# Altium schematic symbol library kmilo17pet-NSC_VoltageRef.SchLib: 796 symbols (part 10 of 20)
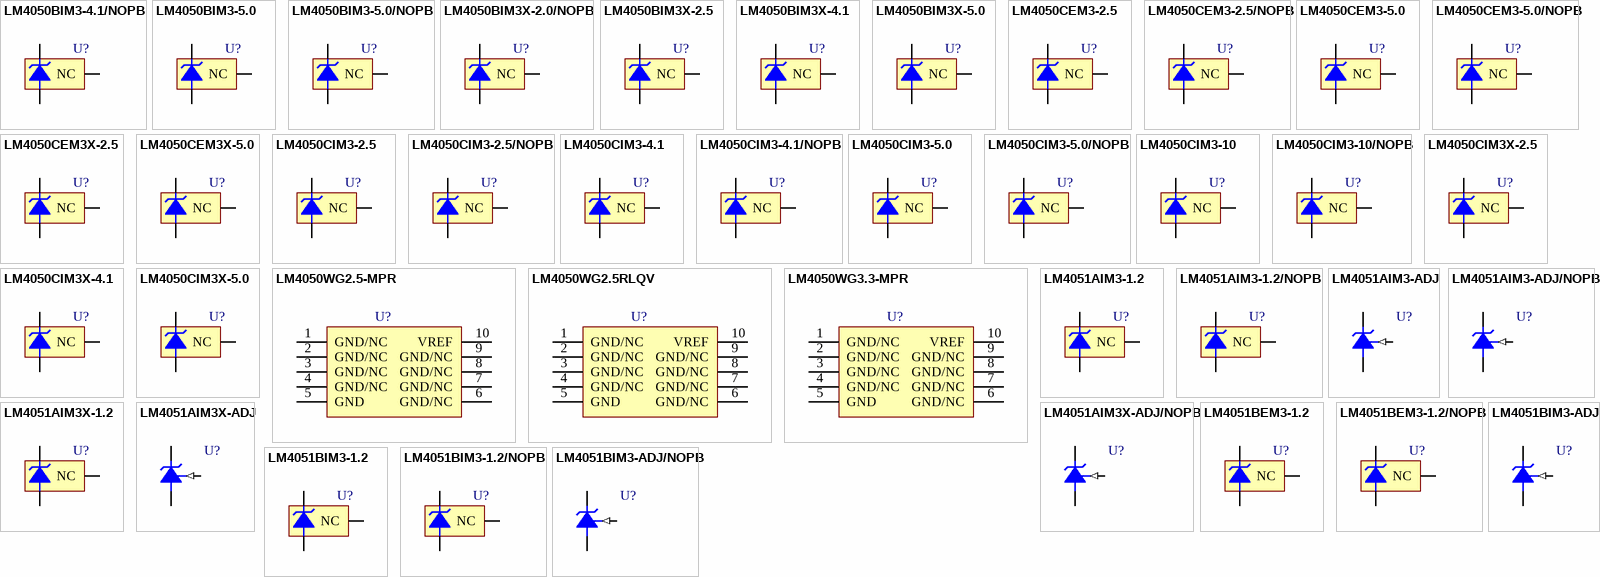
[diagram p29: symbols LM4050BIM3-4.1/NOPB to LM4051BIM3-ADJ/NOPB]

## LM4050CIM3-2.5/NOPB
designator U?
Precision Micropower Shunt Voltage Reference, 3-pin SOT-23, Pb-Free; PartNumber: LM4050CIM3-2.5/NOPB; Manufacturer: National Semiconductor; PackageTopMarking: RCC*XTT; PowerWise: N; CompType: Voltage Reference IC; High-Reliability: Y; DatasheetVersion: Jul-2004; PackageVersion: revB, Mar-2003; PackageReference: MF03A; PackageDescription: Molded SOT-23, .115 x .051 x .037in Body, 3 Lead, .075 in Pitch; RoHS: Y; PinCount: 3; ComponentLink1Description: Manufacturer URL; ComponentLink1URL: http://www.national.com/; ComponentLink2Description: LM4050 Datasheet; ComponentLink2URL: http://www.national.com/ds/LM/LM4050.pdf; ComponentLink3Description: LM4050 Web Page; ComponentLink3URL: http://www.national.com/pf/LM/LM4050.html; ComponentLink4Description: MF03A Package Page; ComponentLink4URL: http://www.national.com/packaging/folders/mf03a.html
footprint MF03A_N (SOT23, 3-Leads, Body 2.9x1.3mm, Pitch 0.95mm, Lead Span 2.4mm, IPC Medium Density)
footprint MF03A_L (SOT23, 3-Leads, Body 2.9x1.3mm, Pitch 0.95mm, Lead Span 2.4mm, IPC High Density)
footprint MF03A_M (SOT23, 3-Leads, Body 2.9x1.3mm, Pitch 0.95mm, Lead Span 2.4mm, IPC Low Density)
pins: 1 +V, 2 -V, 3 NC

## LM4050CIM3-4.1
designator U?
Precision Micropower Shunt Voltage Reference, 3-pin SOT-23; PartNumber: LM4050CIM3-4.1; Manufacturer: National Semiconductor; PackageTopMarking: RDC*XTT; PowerWise: N; CompType: Voltage Reference IC; High-Reliability: Y; DatasheetVersion: Jul-2004; PackageVersion: revB, Mar-2003; PackageReference: MF03A; PackageDescription: Molded SOT-23, .115 x .051 x .037in Body, 3 Lead, .075 in Pitch; RoHS: N; PinCount: 3; ComponentLink1Description: Manufacturer URL; ComponentLink1URL: http://www.national.com/; ComponentLink2Description: LM4050 Datasheet; ComponentLink2URL: http://www.national.com/ds/LM/LM4050.pdf; ComponentLink3Description: LM4050 Web Page; ComponentLink3URL: http://www.national.com/pf/LM/LM4050.html; ComponentLink4Description: MF03A Package Page; ComponentLink4URL: http://www.national.com/packaging/folders/mf03a.html
footprint MF03A_N (SOT23, 3-Leads, Body 2.9x1.3mm, Pitch 0.95mm, Lead Span 2.4mm, IPC Medium Density)
footprint MF03A_L (SOT23, 3-Leads, Body 2.9x1.3mm, Pitch 0.95mm, Lead Span 2.4mm, IPC High Density)
footprint MF03A_M (SOT23, 3-Leads, Body 2.9x1.3mm, Pitch 0.95mm, Lead Span 2.4mm, IPC Low Density)
pins: 1 +V, 2 -V, 3 NC

## LM4050CIM3-4.1/NOPB
designator U?
Precision Micropower Shunt Voltage Reference, 3-pin SOT-23, Pb-Free; PartNumber: LM4050CIM3-4.1/NOPB; Manufacturer: National Semiconductor; PackageTopMarking: RDC*XTT; PowerWise: N; CompType: Voltage Reference IC; High-Reliability: Y; DatasheetVersion: Jul-2004; PackageVersion: revB, Mar-2003; PackageReference: MF03A; PackageDescription: Molded SOT-23, .115 x .051 x .037in Body, 3 Lead, .075 in Pitch; RoHS: Y; PinCount: 3; ComponentLink1Description: Manufacturer URL; ComponentLink1URL: http://www.national.com/; ComponentLink2Description: LM4050 Datasheet; ComponentLink2URL: http://www.national.com/ds/LM/LM4050.pdf; ComponentLink3Description: LM4050 Web Page; ComponentLink3URL: http://www.national.com/pf/LM/LM4050.html; ComponentLink4Description: MF03A Package Page; ComponentLink4URL: http://www.national.com/packaging/folders/mf03a.html
footprint MF03A_N (SOT23, 3-Leads, Body 2.9x1.3mm, Pitch 0.95mm, Lead Span 2.4mm, IPC Medium Density)
footprint MF03A_L (SOT23, 3-Leads, Body 2.9x1.3mm, Pitch 0.95mm, Lead Span 2.4mm, IPC High Density)
footprint MF03A_M (SOT23, 3-Leads, Body 2.9x1.3mm, Pitch 0.95mm, Lead Span 2.4mm, IPC Low Density)
pins: 1 +V, 2 -V, 3 NC

## LM4050CIM3-5.0
designator U?
Precision Micropower Shunt Voltage Reference, 3-pin SOT-23; PartNumber: LM4050CIM3-5.0; Manufacturer: National Semiconductor; PackageTopMarking: REC*XTT; PowerWise: N; CompType: Voltage Reference IC; High-Reliability: Y; DatasheetVersion: Jul-2004; PackageVersion: revB, Mar-2003; PackageReference: MF03A; PackageDescription: Molded SOT-23, .115 x .051 x .037in Body, 3 Lead, .075 in Pitch; RoHS: N; PinCount: 3; ComponentLink1Description: Manufacturer URL; ComponentLink1URL: http://www.national.com/; ComponentLink2Description: LM4050 Datasheet; ComponentLink2URL: http://www.national.com/ds/LM/LM4050.pdf; ComponentLink3Description: LM4050 Web Page; ComponentLink3URL: http://www.national.com/pf/LM/LM4050.html; ComponentLink4Description: MF03A Package Page; ComponentLink4URL: http://www.national.com/packaging/folders/mf03a.html
footprint MF03A_N (SOT23, 3-Leads, Body 2.9x1.3mm, Pitch 0.95mm, Lead Span 2.4mm, IPC Medium Density)
footprint MF03A_L (SOT23, 3-Leads, Body 2.9x1.3mm, Pitch 0.95mm, Lead Span 2.4mm, IPC High Density)
footprint MF03A_M (SOT23, 3-Leads, Body 2.9x1.3mm, Pitch 0.95mm, Lead Span 2.4mm, IPC Low Density)
pins: 1 +V, 2 -V, 3 NC

## LM4050CIM3-5.0/NOPB
designator U?
Precision Micropower Shunt Voltage Reference, 3-pin SOT-23, Pb-Free; PartNumber: LM4050CIM3-5.0/NOPB; Manufacturer: National Semiconductor; PackageTopMarking: REC*XTT; PowerWise: N; CompType: Voltage Reference IC; High-Reliability: Y; DatasheetVersion: Jul-2004; PackageVersion: revB, Mar-2003; PackageReference: MF03A; PackageDescription: Molded SOT-23, .115 x .051 x .037in Body, 3 Lead, .075 in Pitch; RoHS: Y; PinCount: 3; ComponentLink1Description: Manufacturer URL; ComponentLink1URL: http://www.national.com/; ComponentLink2Description: LM4050 Datasheet; ComponentLink2URL: http://www.national.com/ds/LM/LM4050.pdf; ComponentLink3Description: LM4050 Web Page; ComponentLink3URL: http://www.national.com/pf/LM/LM4050.html; ComponentLink4Description: MF03A Package Page; ComponentLink4URL: http://www.national.com/packaging/folders/mf03a.html
footprint MF03A_N (SOT23, 3-Leads, Body 2.9x1.3mm, Pitch 0.95mm, Lead Span 2.4mm, IPC Medium Density)
footprint MF03A_L (SOT23, 3-Leads, Body 2.9x1.3mm, Pitch 0.95mm, Lead Span 2.4mm, IPC High Density)
footprint MF03A_M (SOT23, 3-Leads, Body 2.9x1.3mm, Pitch 0.95mm, Lead Span 2.4mm, IPC Low Density)
pins: 1 +V, 2 -V, 3 NC

## LM4050CIM3-10
designator U?
Precision Micropower Shunt Voltage Reference, 3-pin SOT-23; PartNumber: LM4050CIM3-10; Manufacturer: National Semiconductor; PackageTopMarking: RGC*XTT; PowerWise: N; CompType: Voltage Reference IC; High-Reliability: Y; DatasheetVersion: Jul-2004; PackageVersion: revB, Mar-2003; PackageReference: MF03A; PackageDescription: Molded SOT-23, .115 x .051 x .037in Body, 3 Lead, .075 in Pitch; RoHS: N; PinCount: 3; ComponentLink1Description: Manufacturer URL; ComponentLink1URL: http://www.national.com/; ComponentLink2Description: LM4050 Datasheet; ComponentLink2URL: http://www.national.com/ds/LM/LM4050.pdf; ComponentLink3Description: LM4050 Web Page; ComponentLink3URL: http://www.national.com/pf/LM/LM4050.html; ComponentLink4Description: MF03A Package Page; ComponentLink4URL: http://www.national.com/packaging/folders/mf03a.html
footprint MF03A_N (SOT23, 3-Leads, Body 2.9x1.3mm, Pitch 0.95mm, Lead Span 2.4mm, IPC Medium Density)
footprint MF03A_L (SOT23, 3-Leads, Body 2.9x1.3mm, Pitch 0.95mm, Lead Span 2.4mm, IPC High Density)
footprint MF03A_M (SOT23, 3-Leads, Body 2.9x1.3mm, Pitch 0.95mm, Lead Span 2.4mm, IPC Low Density)
pins: 1 +V, 2 -V, 3 NC

## LM4050CIM3-10/NOPB
designator U?
Precision Micropower Shunt Voltage Reference, 3-pin SOT-23, Pb-Free; PartNumber: LM4050CIM3-10/NOPB; Manufacturer: National Semiconductor; PackageTopMarking: RGC*XTT; PowerWise: N; CompType: Voltage Reference IC; High-Reliability: Y; DatasheetVersion: Jul-2004; PackageVersion: revB, Mar-2003; PackageReference: MF03A; PackageDescription: Molded SOT-23, .115 x .051 x .037in Body, 3 Lead, .075 in Pitch; RoHS: Y; PinCount: 3; ComponentLink1Description: Manufacturer URL; ComponentLink1URL: http://www.national.com/; ComponentLink2Description: LM4050 Datasheet; ComponentLink2URL: http://www.national.com/ds/LM/LM4050.pdf; ComponentLink3Description: LM4050 Web Page; ComponentLink3URL: http://www.national.com/pf/LM/LM4050.html; ComponentLink4Description: MF03A Package Page; ComponentLink4URL: http://www.national.com/packaging/folders/mf03a.html
footprint MF03A_N (SOT23, 3-Leads, Body 2.9x1.3mm, Pitch 0.95mm, Lead Span 2.4mm, IPC Medium Density)
footprint MF03A_L (SOT23, 3-Leads, Body 2.9x1.3mm, Pitch 0.95mm, Lead Span 2.4mm, IPC High Density)
footprint MF03A_M (SOT23, 3-Leads, Body 2.9x1.3mm, Pitch 0.95mm, Lead Span 2.4mm, IPC Low Density)
pins: 1 +V, 2 -V, 3 NC

## LM4050CIM3X-2.5
designator U?
Precision Micropower Shunt Voltage Reference, 3-pin SOT-23; PartNumber: LM4050CIM3X-2.5; Manufacturer: National Semiconductor; PackageTopMarking: RCC*XTT; PowerWise: N; CompType: Voltage Reference IC; High-Reliability: Y; DatasheetVersion: Jul-2004; PackageVersion: revB, Mar-2003; PackageReference: MF03A; PackageDescription: Molded SOT-23, .115 x .051 x .037in Body, 3 Lead, .075 in Pitch; RoHS: N; PinCount: 3; ComponentLink1Description: Manufacturer URL; ComponentLink1URL: http://www.national.com/; ComponentLink2Description: LM4050 Datasheet; ComponentLink2URL: http://www.national.com/ds/LM/LM4050.pdf; ComponentLink3Description: LM4050 Web Page; ComponentLink3URL: http://www.national.com/pf/LM/LM4050.html; ComponentLink4Description: MF03A Package Page; ComponentLink4URL: http://www.national.com/packaging/folders/mf03a.html
footprint MF03A_N (SOT23, 3-Leads, Body 2.9x1.3mm, Pitch 0.95mm, Lead Span 2.4mm, IPC Medium Density)
footprint MF03A_L (SOT23, 3-Leads, Body 2.9x1.3mm, Pitch 0.95mm, Lead Span 2.4mm, IPC High Density)
footprint MF03A_M (SOT23, 3-Leads, Body 2.9x1.3mm, Pitch 0.95mm, Lead Span 2.4mm, IPC Low Density)
pins: 1 +V, 2 -V, 3 NC

## LM4050CIM3X-4.1
designator U?
Precision Micropower Shunt Voltage Reference, 3-pin SOT-23; PartNumber: LM4050CIM3X-4.1; Manufacturer: National Semiconductor; PackageTopMarking: RDC*XTT; PowerWise: N; CompType: Voltage Reference IC; High-Reliability: Y; DatasheetVersion: Jul-2004; PackageVersion: revB, Mar-2003; PackageReference: MF03A; PackageDescription: Molded SOT-23, .115 x .051 x .037in Body, 3 Lead, .075 in Pitch; RoHS: N; PinCount: 3; ComponentLink1Description: Manufacturer URL; ComponentLink1URL: http://www.national.com/; ComponentLink2Description: LM4050 Datasheet; ComponentLink2URL: http://www.national.com/ds/LM/LM4050.pdf; ComponentLink3Description: LM4050 Web Page; ComponentLink3URL: http://www.national.com/pf/LM/LM4050.html; ComponentLink4Description: MF03A Package Page; ComponentLink4URL: http://www.national.com/packaging/folders/mf03a.html
footprint MF03A_N (SOT23, 3-Leads, Body 2.9x1.3mm, Pitch 0.95mm, Lead Span 2.4mm, IPC Medium Density)
footprint MF03A_L (SOT23, 3-Leads, Body 2.9x1.3mm, Pitch 0.95mm, Lead Span 2.4mm, IPC High Density)
footprint MF03A_M (SOT23, 3-Leads, Body 2.9x1.3mm, Pitch 0.95mm, Lead Span 2.4mm, IPC Low Density)
pins: 1 +V, 2 -V, 3 NC

## LM4050CIM3X-5.0
designator U?
Precision Micropower Shunt Voltage Reference, 3-pin SOT-23; PartNumber: LM4050CIM3X-5.0; Manufacturer: National Semiconductor; PackageTopMarking: REC*XTT; PowerWise: N; CompType: Voltage Reference IC; High-Reliability: Y; DatasheetVersion: Jul-2004; PackageVersion: revB, Mar-2003; PackageReference: MF03A; PackageDescription: Molded SOT-23, .115 x .051 x .037in Body, 3 Lead, .075 in Pitch; RoHS: N; PinCount: 3; ComponentLink1Description: Manufacturer URL; ComponentLink1URL: http://www.national.com/; ComponentLink2Description: LM4050 Datasheet; ComponentLink2URL: http://www.national.com/ds/LM/LM4050.pdf; ComponentLink3Description: LM4050 Web Page; ComponentLink3URL: http://www.national.com/pf/LM/LM4050.html; ComponentLink4Description: MF03A Package Page; ComponentLink4URL: http://www.national.com/packaging/folders/mf03a.html
footprint MF03A_N (SOT23, 3-Leads, Body 2.9x1.3mm, Pitch 0.95mm, Lead Span 2.4mm, IPC Medium Density)
footprint MF03A_L (SOT23, 3-Leads, Body 2.9x1.3mm, Pitch 0.95mm, Lead Span 2.4mm, IPC High Density)
footprint MF03A_M (SOT23, 3-Leads, Body 2.9x1.3mm, Pitch 0.95mm, Lead Span 2.4mm, IPC Low Density)
pins: 1 +V, 2 -V, 3 NC

## LM4050WG2.5-MPR
designator U?
Precision Micropower Shunt Voltage Reference, 10 pin CERPACK; PartNumber: LM4050WG2.5-MPR; Manufacturer: National Semiconductor; PackageTopMarking: NSZSSXXYYA*LM4050WG*2.5-MPR*ES; PowerWise: N; CompType: Voltage Reference IC; High-Reliability: Y; DatasheetVersion: Aug-2010; PackageVersion: revF, Oct-2008; PackageReference: WG10A; PackageDescription: Cerpack, .270 x .241 x .070in, 10 Lead, .050in Pitch, Gull Wing; RoHS: N; PinCount: 10; ComponentLink1Description: Manufacturer URL; ComponentLink1URL: http://www.national.com/; ComponentLink2Description: LM4050 Datasheet; ComponentLink2URL: http://www.national.com/ds/LM/LM4050QML.pdf; ComponentLink3Description: LM4050 Web Page; ComponentLink3URL: http://www.national.com/pf/LM/LM4050.html; ComponentLink4Description: WG10A Package Page; ComponentLink4URL: http://www.national.com/packaging/folders/wg10a.html
footprint WG10A_N (CERPACK, 10-Leads, Body 6.9x6.3mm, Pitch 1.27mm, IPC Medium Density)
footprint WG10A_L (CERPACK, 10-Leads, Body 6.9x6.3mm, Pitch 1.27mm, IPC High Density)
footprint WG10A_M (CERPACK, 10-Leads, Body 6.9x6.3mm, Pitch 1.27mm, IPC Low Density)
pins: 1 GND/NC, 2 GND/NC, 3 GND/NC, 4 GND/NC, 5 GND (power), 6 GND/NC, 7 GND/NC, 8 GND/NC, 9 GND/NC, 10 VREF (power)

## LM4050WG2.5RLQV
designator U?
Precision Micropower Shunt Voltage Reference, 10 pin CERPACK; PartNumber: LM4050WG2.5RLQV; Manufacturer: National Semiconductor; PackageTopMarking: NSZSSXXYYA*LM4050WG*2.5RLQV Q*R09235*61VZA; PowerWise: N; CompType: Voltage Reference IC; High-Reliability: Y; DatasheetVersion: Aug-2010; PackageVersion: revF, Oct-2008; PackageReference: WG10A; PackageDescription: Cerpack, .270 x .241 x .070in, 10 Lead, .050in Pitch, Gull Wing; RoHS: N; PinCount: 10; ComponentLink1Description: Manufacturer URL; ComponentLink1URL: http://www.national.com/; ComponentLink2Description: LM4050 Datasheet; ComponentLink2URL: http://www.national.com/ds/LM/LM4050QML.pdf; ComponentLink3Description: LM4050 Web Page; ComponentLink3URL: http://www.national.com/pf/LM/LM4050.html; ComponentLink4Description: WG10A Package Page; ComponentLink4URL: http://www.national.com/packaging/folders/wg10a.html
footprint WG10A_N (CERPACK, 10-Leads, Body 6.9x6.3mm, Pitch 1.27mm, IPC Medium Density)
footprint WG10A_L (CERPACK, 10-Leads, Body 6.9x6.3mm, Pitch 1.27mm, IPC High Density)
footprint WG10A_M (CERPACK, 10-Leads, Body 6.9x6.3mm, Pitch 1.27mm, IPC Low Density)
pins: 1 GND/NC, 2 GND/NC, 3 GND/NC, 4 GND/NC, 5 GND (power), 6 GND/NC, 7 GND/NC, 8 GND/NC, 9 GND/NC, 10 VREF (power)

## LM4050WG3.3-MPR
designator U?
Precision Micropower Shunt Voltage Reference, 10 pin CERPACK; PartNumber: LM4050WG3.3-MPR; Manufacturer: National Semiconductor; PackageTopMarking: NSZSSXXYYA*LM4050WG*3.3-MPR*ES; PowerWise: N; CompType: Voltage Reference IC; High-Reliability: Y; DatasheetVersion: Aug-2010; PackageVersion: revF, Oct-2008; PackageReference: WG10A; PackageDescription: Cerpack, .270 x .241 x .070in, 10 Lead, .050in Pitch, Gull Wing; RoHS: N; PinCount: 10; ComponentLink1Description: Manufacturer URL; ComponentLink1URL: http://www.national.com/; ComponentLink2Description: LM4050 Datasheet; ComponentLink2URL: http://www.national.com/ds/LM/LM4050QML.pdf; ComponentLink3Description: LM4050 Web Page; ComponentLink3URL: http://www.national.com/pf/LM/LM4050.html; ComponentLink4Description: WG10A Package Page; ComponentLink4URL: http://www.national.com/packaging/folders/wg10a.html
footprint WG10A_N (CERPACK, 10-Leads, Body 6.9x6.3mm, Pitch 1.27mm, IPC Medium Density)
footprint WG10A_L (CERPACK, 10-Leads, Body 6.9x6.3mm, Pitch 1.27mm, IPC High Density)
footprint WG10A_M (CERPACK, 10-Leads, Body 6.9x6.3mm, Pitch 1.27mm, IPC Low Density)
pins: 1 GND/NC, 2 GND/NC, 3 GND/NC, 4 GND/NC, 5 GND (power), 6 GND/NC, 7 GND/NC, 8 GND/NC, 9 GND/NC, 10 VREF (power)

## LM4051AIM3-1.2
designator U?
Precision Micropower Shunt Voltage Reference, 3-pin SOT-23; PartNumber: LM4051AIM3-1.2; Manufacturer: National Semiconductor; PackageTopMarking: RHA*XTT; PowerWise: N; CompType: Voltage Reference IC; DatasheetVersion: Mar-2005; PackageVersion: revB, Mar-2003; PackageReference: MF03A; PackageDescription: Molded SOT-23, .115 x .051 x .037in Body, 3 Lead, .075 in Pitch; RoHS: N; PinCount: 3; ComponentLink1Description: Manufacturer URL; ComponentLink1URL: http://www.national.com/; ComponentLink2Description: LM4051 Datasheet; ComponentLink2URL: http://www.national.com/ds/LM/LM4051.pdf; ComponentLink3Description: LM4051 Web Page; ComponentLink3URL: http://www.national.com/pf/LM/LM4051.html; ComponentLink4Description: MF03A Package Page; ComponentLink4URL: http://www.national.com/packaging/folders/mf03a.html
footprint MF03A_N (SOT23, 3-Leads, Body 2.9x1.3mm, Pitch 0.95mm, Lead Span 2.4mm, IPC Medium Density)
footprint MF03A_L (SOT23, 3-Leads, Body 2.9x1.3mm, Pitch 0.95mm, Lead Span 2.4mm, IPC High Density)
footprint MF03A_M (SOT23, 3-Leads, Body 2.9x1.3mm, Pitch 0.95mm, Lead Span 2.4mm, IPC Low Density)
pins: 1 +V, 2 -V, 3 NC

## LM4051AIM3-1.2/NOPB
designator U?
Precision Micropower Shunt Voltage Reference, 3-pin SOT-23, Pb-Free; PartNumber: LM4051AIM3-1.2/NOPB; Manufacturer: National Semiconductor; PackageTopMarking: RHA*XTT; PowerWise: N; CompType: Voltage Reference IC; DatasheetVersion: Mar-2005; PackageVersion: revB, Mar-2003; PackageReference: MF03A; PackageDescription: Molded SOT-23, .115 x .051 x .037in Body, 3 Lead, .075 in Pitch; RoHS: Y; PinCount: 3; ComponentLink1Description: Manufacturer URL; ComponentLink1URL: http://www.national.com/; ComponentLink2Description: LM4051 Datasheet; ComponentLink2URL: http://www.national.com/ds/LM/LM4051.pdf; ComponentLink3Description: LM4051 Web Page; ComponentLink3URL: http://www.national.com/pf/LM/LM4051.html; ComponentLink4Description: MF03A Package Page; ComponentLink4URL: http://www.national.com/packaging/folders/mf03a.html
footprint MF03A_N (SOT23, 3-Leads, Body 2.9x1.3mm, Pitch 0.95mm, Lead Span 2.4mm, IPC Medium Density)
footprint MF03A_L (SOT23, 3-Leads, Body 2.9x1.3mm, Pitch 0.95mm, Lead Span 2.4mm, IPC High Density)
footprint MF03A_M (SOT23, 3-Leads, Body 2.9x1.3mm, Pitch 0.95mm, Lead Span 2.4mm, IPC Low Density)
pins: 1 +V, 2 -V, 3 NC

## LM4051AIM3-ADJ
designator U?
Precision Micropower Shunt Voltage Reference, 3-pin SOT-23; PartNumber: LM4051AIM3-ADJ; Manufacturer: National Semiconductor; PackageTopMarking: RIA*XTT; PowerWise: N; CompType: Voltage Reference IC; DatasheetVersion: Mar-2005; PackageVersion: revB, Mar-2003; PackageReference: MF03A; PackageDescription: Molded SOT-23, .115 x .051 x .037in Body, 3 Lead, .075 in Pitch; RoHS: N; PinCount: 3; ComponentLink1Description: Manufacturer URL; ComponentLink1URL: http://www.national.com/; ComponentLink2Description: LM4051 Datasheet; ComponentLink2URL: http://www.national.com/ds/LM/LM4051.pdf; ComponentLink3Description: LM4051 Web Page; ComponentLink3URL: http://www.national.com/pf/LM/LM4051.html; ComponentLink4Description: MF03A Package Page; ComponentLink4URL: http://www.national.com/packaging/folders/mf03a.html
footprint MF03A_N (SOT23, 3-Leads, Body 2.9x1.3mm, Pitch 0.95mm, Lead Span 2.4mm, IPC Medium Density)
footprint MF03A_L (SOT23, 3-Leads, Body 2.9x1.3mm, Pitch 0.95mm, Lead Span 2.4mm, IPC High Density)
footprint MF03A_M (SOT23, 3-Leads, Body 2.9x1.3mm, Pitch 0.95mm, Lead Span 2.4mm, IPC Low Density)
pins: 1 FB (in), 2 +V, 3 -V

## LM4051AIM3-ADJ/NOPB
designator U?
Precision Micropower Shunt Voltage Reference, 3-pin SOT-23, Pb-Free; PartNumber: LM4051AIM3-ADJ/NOPB; Manufacturer: National Semiconductor; PackageTopMarking: RIA*XTT; PowerWise: N; CompType: Voltage Reference IC; DatasheetVersion: Mar-2005; PackageVersion: revB, Mar-2003; PackageReference: MF03A; PackageDescription: Molded SOT-23, .115 x .051 x .037in Body, 3 Lead, .075 in Pitch; RoHS: Y; PinCount: 3; ComponentLink1Description: Manufacturer URL; ComponentLink1URL: http://www.national.com/; ComponentLink2Description: LM4051 Datasheet; ComponentLink2URL: http://www.national.com/ds/LM/LM4051.pdf; ComponentLink3Description: LM4051 Web Page; ComponentLink3URL: http://www.national.com/pf/LM/LM4051.html; ComponentLink4Description: MF03A Package Page; ComponentLink4URL: http://www.national.com/packaging/folders/mf03a.html
footprint MF03A_N (SOT23, 3-Leads, Body 2.9x1.3mm, Pitch 0.95mm, Lead Span 2.4mm, IPC Medium Density)
footprint MF03A_L (SOT23, 3-Leads, Body 2.9x1.3mm, Pitch 0.95mm, Lead Span 2.4mm, IPC High Density)
footprint MF03A_M (SOT23, 3-Leads, Body 2.9x1.3mm, Pitch 0.95mm, Lead Span 2.4mm, IPC Low Density)
pins: 1 FB (in), 2 +V, 3 -V

## LM4051AIM3X-1.2
designator U?
Precision Micropower Shunt Voltage Reference, 3-pin SOT-23; PartNumber: LM4051AIM3X-1.2; Manufacturer: National Semiconductor; PackageTopMarking: RHA*XTT; PowerWise: N; CompType: Voltage Reference IC; DatasheetVersion: Mar-2005; PackageVersion: revB, Mar-2003; PackageReference: MF03A; PackageDescription: Molded SOT-23, .115 x .051 x .037in Body, 3 Lead, .075 in Pitch; RoHS: N; PinCount: 3; ComponentLink1Description: Manufacturer URL; ComponentLink1URL: http://www.national.com/; ComponentLink2Description: LM4051 Datasheet; ComponentLink2URL: http://www.national.com/ds/LM/LM4051.pdf; ComponentLink3Description: LM4051 Web Page; ComponentLink3URL: http://www.national.com/pf/LM/LM4051.html; ComponentLink4Description: MF03A Package Page; ComponentLink4URL: http://www.national.com/packaging/folders/mf03a.html
footprint MF03A_N (SOT23, 3-Leads, Body 2.9x1.3mm, Pitch 0.95mm, Lead Span 2.4mm, IPC Medium Density)
footprint MF03A_L (SOT23, 3-Leads, Body 2.9x1.3mm, Pitch 0.95mm, Lead Span 2.4mm, IPC High Density)
footprint MF03A_M (SOT23, 3-Leads, Body 2.9x1.3mm, Pitch 0.95mm, Lead Span 2.4mm, IPC Low Density)
pins: 1 +V, 2 -V, 3 NC

## LM4051AIM3X-ADJ
designator U?
Precision Micropower Shunt Voltage Reference, 3-pin SOT-23; PartNumber: LM4051AIM3X-ADJ; Manufacturer: National Semiconductor; PackageTopMarking: RIA*XTT; PowerWise: N; CompType: Voltage Reference IC; DatasheetVersion: Mar-2005; PackageVersion: revB, Mar-2003; PackageReference: MF03A; PackageDescription: Molded SOT-23, .115 x .051 x .037in Body, 3 Lead, .075 in Pitch; RoHS: N; PinCount: 3; ComponentLink1Description: Manufacturer URL; ComponentLink1URL: http://www.national.com/; ComponentLink2Description: LM4051 Datasheet; ComponentLink2URL: http://www.national.com/ds/LM/LM4051.pdf; ComponentLink3Description: LM4051 Web Page; ComponentLink3URL: http://www.national.com/pf/LM/LM4051.html; ComponentLink4Description: MF03A Package Page; ComponentLink4URL: http://www.national.com/packaging/folders/mf03a.html
footprint MF03A_N (SOT23, 3-Leads, Body 2.9x1.3mm, Pitch 0.95mm, Lead Span 2.4mm, IPC Medium Density)
footprint MF03A_L (SOT23, 3-Leads, Body 2.9x1.3mm, Pitch 0.95mm, Lead Span 2.4mm, IPC High Density)
footprint MF03A_M (SOT23, 3-Leads, Body 2.9x1.3mm, Pitch 0.95mm, Lead Span 2.4mm, IPC Low Density)
pins: 1 FB (in), 2 +V, 3 -V

## LM4051AIM3X-ADJ/NOPB
designator U?
Precision Micropower Shunt Voltage Reference, 3-pin SOT-23, Pb-Free; PartNumber: LM4051AIM3X-ADJ/NOPB; Manufacturer: National Semiconductor; PackageTopMarking: RIA*XTT; PowerWise: N; CompType: Voltage Reference IC; DatasheetVersion: Mar-2005; PackageVersion: revB, Mar-2003; PackageReference: MF03A; PackageDescription: Molded SOT-23, .115 x .051 x .037in Body, 3 Lead, .075 in Pitch; RoHS: Y; PinCount: 3; ComponentLink1Description: Manufacturer URL; ComponentLink1URL: http://www.national.com/; ComponentLink2Description: LM4051 Datasheet; ComponentLink2URL: http://www.national.com/ds/LM/LM4051.pdf; ComponentLink3Description: LM4051 Web Page; ComponentLink3URL: http://www.national.com/pf/LM/LM4051.html; ComponentLink4Description: MF03A Package Page; ComponentLink4URL: http://www.national.com/packaging/folders/mf03a.html
footprint MF03A_N (SOT23, 3-Leads, Body 2.9x1.3mm, Pitch 0.95mm, Lead Span 2.4mm, IPC Medium Density)
footprint MF03A_L (SOT23, 3-Leads, Body 2.9x1.3mm, Pitch 0.95mm, Lead Span 2.4mm, IPC High Density)
footprint MF03A_M (SOT23, 3-Leads, Body 2.9x1.3mm, Pitch 0.95mm, Lead Span 2.4mm, IPC Low Density)
pins: 1 FB (in), 2 +V, 3 -V

## LM4051BEM3-1.2
designator U?
Precision Micropower Shunt Voltage Reference, 3-pin SOT-23; PartNumber: LM4051BEM3-1.2; Manufacturer: National Semiconductor; PackageTopMarking: RHB*XTT; PowerWise: N; CompType: Voltage Reference IC; DatasheetVersion: Mar-2005; PackageVersion: revB, Mar-2003; PackageReference: MF03A; PackageDescription: Molded SOT-23, .115 x .051 x .037in Body, 3 Lead, .075 in Pitch; RoHS: N; PinCount: 3; ComponentLink1Description: Manufacturer URL; ComponentLink1URL: http://www.national.com/; ComponentLink2Description: LM4051 Datasheet; ComponentLink2URL: http://www.national.com/ds/LM/LM4051.pdf; ComponentLink3Description: LM4051 Web Page; ComponentLink3URL: http://www.national.com/pf/LM/LM4051.html; ComponentLink4Description: MF03A Package Page; ComponentLink4URL: http://www.national.com/packaging/folders/mf03a.html
footprint MF03A_N (SOT23, 3-Leads, Body 2.9x1.3mm, Pitch 0.95mm, Lead Span 2.4mm, IPC Medium Density)
footprint MF03A_L (SOT23, 3-Leads, Body 2.9x1.3mm, Pitch 0.95mm, Lead Span 2.4mm, IPC High Density)
footprint MF03A_M (SOT23, 3-Leads, Body 2.9x1.3mm, Pitch 0.95mm, Lead Span 2.4mm, IPC Low Density)
pins: 1 +V, 2 -V, 3 NC

## LM4051BEM3-1.2/NOPB
designator U?
Precision Micropower Shunt Voltage Reference, 3-pin SOT-23, Pb-Free; PartNumber: LM4051BEM3-1.2/NOPB; Manufacturer: National Semiconductor; PackageTopMarking: RHB*XTT; PowerWise: N; CompType: Voltage Reference IC; DatasheetVersion: Mar-2005; PackageVersion: revB, Mar-2003; PackageReference: MF03A; PackageDescription: Molded SOT-23, .115 x .051 x .037in Body, 3 Lead, .075 in Pitch; RoHS: Y; PinCount: 3; ComponentLink1Description: Manufacturer URL; ComponentLink1URL: http://www.national.com/; ComponentLink2Description: LM4051 Datasheet; ComponentLink2URL: http://www.national.com/ds/LM/LM4051.pdf; ComponentLink3Description: LM4051 Web Page; ComponentLink3URL: http://www.national.com/pf/LM/LM4051.html; ComponentLink4Description: MF03A Package Page; ComponentLink4URL: http://www.national.com/packaging/folders/mf03a.html
footprint MF03A_N (SOT23, 3-Leads, Body 2.9x1.3mm, Pitch 0.95mm, Lead Span 2.4mm, IPC Medium Density)
footprint MF03A_L (SOT23, 3-Leads, Body 2.9x1.3mm, Pitch 0.95mm, Lead Span 2.4mm, IPC High Density)
footprint MF03A_M (SOT23, 3-Leads, Body 2.9x1.3mm, Pitch 0.95mm, Lead Span 2.4mm, IPC Low Density)
pins: 1 +V, 2 -V, 3 NC

## LM4051BIM3-1.2
designator U?
Precision Micropower Shunt Voltage Reference, 3-pin SOT-23; PartNumber: LM4051BIM3-1.2; Manufacturer: National Semiconductor; PackageTopMarking: RHB*XTT; PowerWise: N; CompType: Voltage Reference IC; DatasheetVersion: Mar-2005; PackageVersion: revB, Mar-2003; PackageReference: MF03A; PackageDescription: Molded SOT-23, .115 x .051 x .037in Body, 3 Lead, .075 in Pitch; RoHS: N; PinCount: 3; ComponentLink1Description: Manufacturer URL; ComponentLink1URL: http://www.national.com/; ComponentLink2Description: LM4051 Datasheet; ComponentLink2URL: http://www.national.com/ds/LM/LM4051.pdf; ComponentLink3Description: LM4051 Web Page; ComponentLink3URL: http://www.national.com/pf/LM/LM4051.html; ComponentLink4Description: MF03A Package Page; ComponentLink4URL: http://www.national.com/packaging/folders/mf03a.html
footprint MF03A_N (SOT23, 3-Leads, Body 2.9x1.3mm, Pitch 0.95mm, Lead Span 2.4mm, IPC Medium Density)
footprint MF03A_L (SOT23, 3-Leads, Body 2.9x1.3mm, Pitch 0.95mm, Lead Span 2.4mm, IPC High Density)
footprint MF03A_M (SOT23, 3-Leads, Body 2.9x1.3mm, Pitch 0.95mm, Lead Span 2.4mm, IPC Low Density)
pins: 1 +V, 2 -V, 3 NC

## LM4051BIM3-1.2/NOPB
designator U?
Precision Micropower Shunt Voltage Reference, 3-pin SOT-23, Pb-Free; PartNumber: LM4051BIM3-1.2/NOPB; Manufacturer: National Semiconductor; PackageTopMarking: RHB*XTT; PowerWise: N; CompType: Voltage Reference IC; DatasheetVersion: Mar-2005; PackageVersion: revB, Mar-2003; PackageReference: MF03A; PackageDescription: Molded SOT-23, .115 x .051 x .037in Body, 3 Lead, .075 in Pitch; RoHS: Y; PinCount: 3; ComponentLink1Description: Manufacturer URL; ComponentLink1URL: http://www.national.com/; ComponentLink2Description: LM4051 Datasheet; ComponentLink2URL: http://www.national.com/ds/LM/LM4051.pdf; ComponentLink3Description: LM4051 Web Page; ComponentLink3URL: http://www.national.com/pf/LM/LM4051.html; ComponentLink4Description: MF03A Package Page; ComponentLink4URL: http://www.national.com/packaging/folders/mf03a.html
footprint MF03A_N (SOT23, 3-Leads, Body 2.9x1.3mm, Pitch 0.95mm, Lead Span 2.4mm, IPC Medium Density)
footprint MF03A_L (SOT23, 3-Leads, Body 2.9x1.3mm, Pitch 0.95mm, Lead Span 2.4mm, IPC High Density)
footprint MF03A_M (SOT23, 3-Leads, Body 2.9x1.3mm, Pitch 0.95mm, Lead Span 2.4mm, IPC Low Density)
pins: 1 +V, 2 -V, 3 NC

## LM4051BIM3-ADJ
designator U?
Precision Micropower Shunt Voltage Reference, 3-pin SOT-23; PartNumber: LM4051BIM3-ADJ; Manufacturer: National Semiconductor; PackageTopMarking: RIB*XTT; PowerWise: N; CompType: Voltage Reference IC; DatasheetVersion: Mar-2005; PackageVersion: revB, Mar-2003; PackageReference: MF03A; PackageDescription: Molded SOT-23, .115 x .051 x .037in Body, 3 Lead, .075 in Pitch; RoHS: N; PinCount: 3; ComponentLink1Description: Manufacturer URL; ComponentLink1URL: http://www.national.com/; ComponentLink2Description: LM4051 Datasheet; ComponentLink2URL: http://www.national.com/ds/LM/LM4051.pdf; ComponentLink3Description: LM4051 Web Page; ComponentLink3URL: http://www.national.com/pf/LM/LM4051.html; ComponentLink4Description: MF03A Package Page; ComponentLink4URL: http://www.national.com/packaging/folders/mf03a.html
footprint MF03A_N (SOT23, 3-Leads, Body 2.9x1.3mm, Pitch 0.95mm, Lead Span 2.4mm, IPC Medium Density)
footprint MF03A_L (SOT23, 3-Leads, Body 2.9x1.3mm, Pitch 0.95mm, Lead Span 2.4mm, IPC High Density)
footprint MF03A_M (SOT23, 3-Leads, Body 2.9x1.3mm, Pitch 0.95mm, Lead Span 2.4mm, IPC Low Density)
pins: 1 FB (in), 2 +V, 3 -V

## LM4051BIM3-ADJ/NOPB
designator U?
Precision Micropower Shunt Voltage Reference, 3-pin SOT-23, Pb-Free; PartNumber: LM4051BIM3-ADJ/NOPB; Manufacturer: National Semiconductor; PackageTopMarking: RIB*XTT; PowerWise: N; CompType: Voltage Reference IC; DatasheetVersion: Mar-2005; PackageVersion: revB, Mar-2003; PackageReference: MF03A; PackageDescription: Molded SOT-23, .115 x .051 x .037in Body, 3 Lead, .075 in Pitch; RoHS: Y; PinCount: 3; ComponentLink1Description: Manufacturer URL; ComponentLink1URL: http://www.national.com/; ComponentLink2Description: LM4051 Datasheet; ComponentLink2URL: http://www.national.com/ds/LM/LM4051.pdf; ComponentLink3Description: LM4051 Web Page; ComponentLink3URL: http://www.national.com/pf/LM/LM4051.html; ComponentLink4Description: MF03A Package Page; ComponentLink4URL: http://www.national.com/packaging/folders/mf03a.html
footprint MF03A_N (SOT23, 3-Leads, Body 2.9x1.3mm, Pitch 0.95mm, Lead Span 2.4mm, IPC Medium Density)
footprint MF03A_L (SOT23, 3-Leads, Body 2.9x1.3mm, Pitch 0.95mm, Lead Span 2.4mm, IPC High Density)
footprint MF03A_M (SOT23, 3-Leads, Body 2.9x1.3mm, Pitch 0.95mm, Lead Span 2.4mm, IPC Low Density)
pins: 1 FB (in), 2 +V, 3 -V

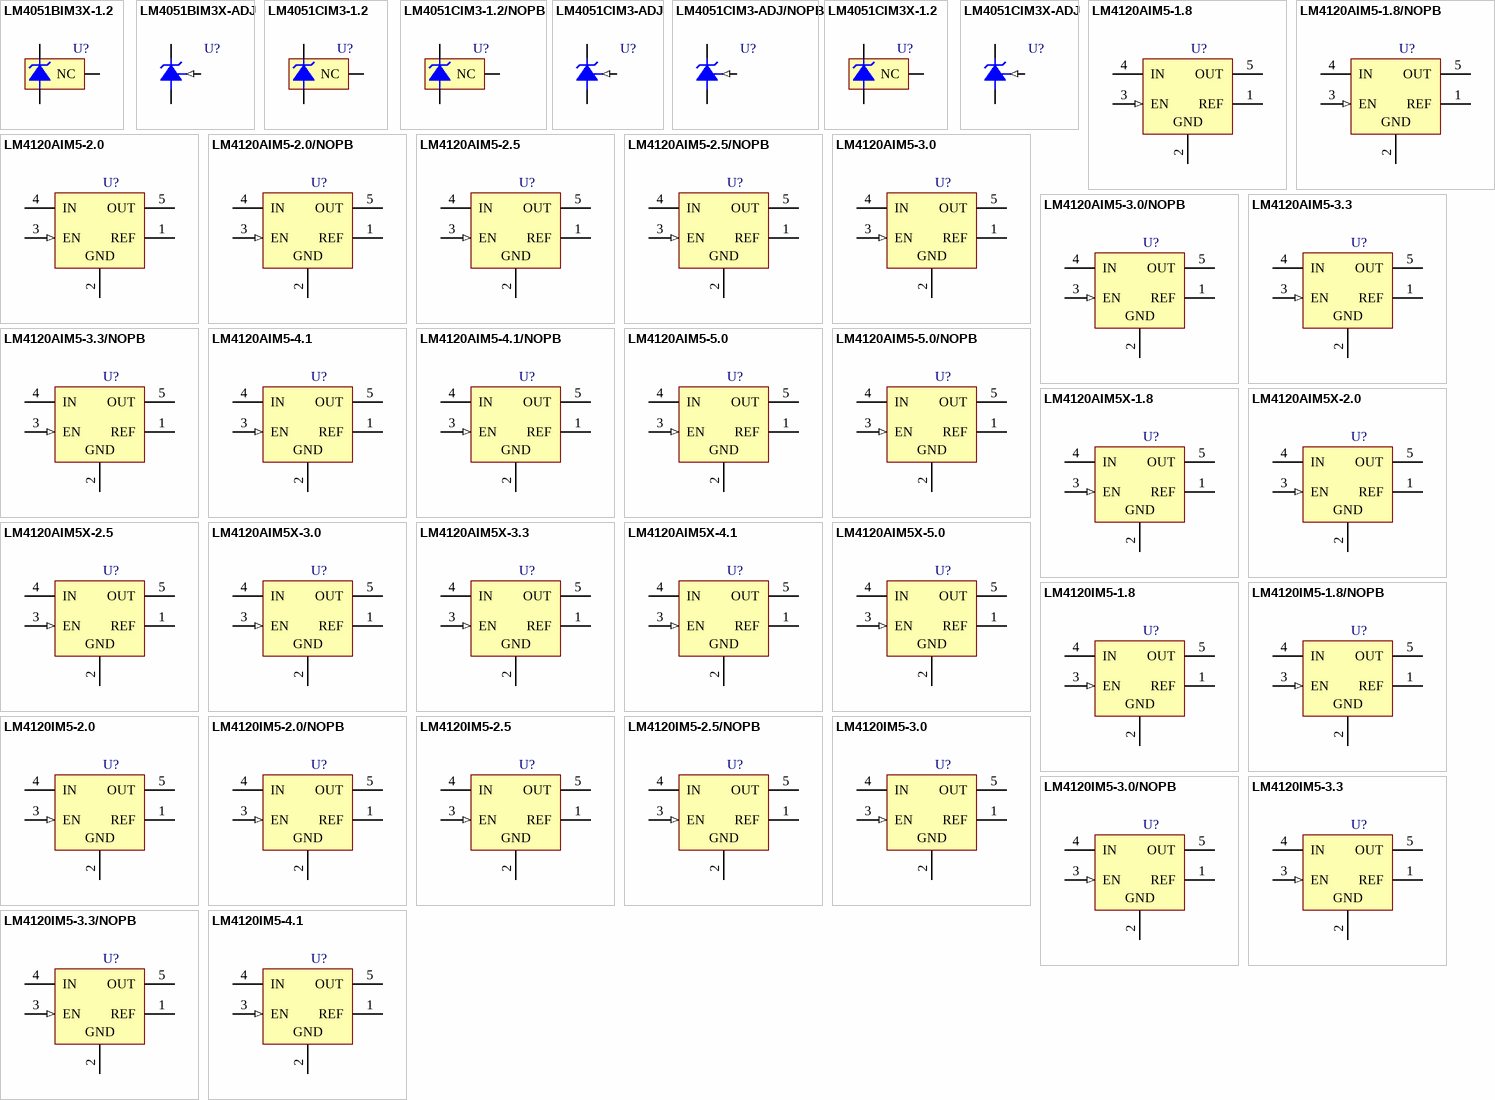
[diagram p11: symbols LM4051BIM3X-1.2 to LM4120IM5-4.1]

## LM4051BIM3X-1.2
designator U?
Precision Micropower Shunt Voltage Reference, 3-pin SOT-23; PartNumber: LM4051BIM3X-1.2; Manufacturer: National Semiconductor; PackageTopMarking: RHB*XTT; PowerWise: N; CompType: Voltage Reference IC; DatasheetVersion: Mar-2005; PackageVersion: revB, Mar-2003; PackageReference: MF03A; PackageDescription: Molded SOT-23, .115 x .051 x .037in Body, 3 Lead, .075 in Pitch; RoHS: N; PinCount: 3; ComponentLink1Description: Manufacturer URL; ComponentLink1URL: http://www.national.com/; ComponentLink2Description: LM4051 Datasheet; ComponentLink2URL: http://www.national.com/ds/LM/LM4051.pdf; ComponentLink3Description: LM4051 Web Page; ComponentLink3URL: http://www.national.com/pf/LM/LM4051.html; ComponentLink4Description: MF03A Package Page; ComponentLink4URL: http://www.national.com/packaging/folders/mf03a.html
footprint MF03A_N (SOT23, 3-Leads, Body 2.9x1.3mm, Pitch 0.95mm, Lead Span 2.4mm, IPC Medium Density)
footprint MF03A_L (SOT23, 3-Leads, Body 2.9x1.3mm, Pitch 0.95mm, Lead Span 2.4mm, IPC High Density)
footprint MF03A_M (SOT23, 3-Leads, Body 2.9x1.3mm, Pitch 0.95mm, Lead Span 2.4mm, IPC Low Density)
pins: 1 +V, 2 -V, 3 NC

## LM4051BIM3X-ADJ
designator U?
Precision Micropower Shunt Voltage Reference, 3-pin SOT-23; PartNumber: LM4051BIM3X-ADJ; Manufacturer: National Semiconductor; PackageTopMarking: RIB*XTT; PowerWise: N; CompType: Voltage Reference IC; DatasheetVersion: Mar-2005; PackageVersion: revB, Mar-2003; PackageReference: MF03A; PackageDescription: Molded SOT-23, .115 x .051 x .037in Body, 3 Lead, .075 in Pitch; RoHS: N; PinCount: 3; ComponentLink1Description: Manufacturer URL; ComponentLink1URL: http://www.national.com/; ComponentLink2Description: LM4051 Datasheet; ComponentLink2URL: http://www.national.com/ds/LM/LM4051.pdf; ComponentLink3Description: LM4051 Web Page; ComponentLink3URL: http://www.national.com/pf/LM/LM4051.html; ComponentLink4Description: MF03A Package Page; ComponentLink4URL: http://www.national.com/packaging/folders/mf03a.html
footprint MF03A_N (SOT23, 3-Leads, Body 2.9x1.3mm, Pitch 0.95mm, Lead Span 2.4mm, IPC Medium Density)
footprint MF03A_L (SOT23, 3-Leads, Body 2.9x1.3mm, Pitch 0.95mm, Lead Span 2.4mm, IPC High Density)
footprint MF03A_M (SOT23, 3-Leads, Body 2.9x1.3mm, Pitch 0.95mm, Lead Span 2.4mm, IPC Low Density)
pins: 1 FB (in), 2 +V, 3 -V

## LM4051CIM3-1.2
designator U?
Precision Micropower Shunt Voltage Reference, 3-pin SOT-23; PartNumber: LM4051CIM3-1.2; Manufacturer: National Semiconductor; PackageTopMarking: RHC*XTT; PowerWise: N; CompType: Voltage Reference IC; DatasheetVersion: Mar-2005; PackageVersion: revB, Mar-2003; PackageReference: MF03A; PackageDescription: Molded SOT-23, .115 x .051 x .037in Body, 3 Lead, .075 in Pitch; RoHS: N; PinCount: 3; ComponentLink1Description: Manufacturer URL; ComponentLink1URL: http://www.national.com/; ComponentLink2Description: LM4051 Datasheet; ComponentLink2URL: http://www.national.com/ds/LM/LM4051.pdf; ComponentLink3Description: LM4051 Web Page; ComponentLink3URL: http://www.national.com/pf/LM/LM4051.html; ComponentLink4Description: MF03A Package Page; ComponentLink4URL: http://www.national.com/packaging/folders/mf03a.html
footprint MF03A_N (SOT23, 3-Leads, Body 2.9x1.3mm, Pitch 0.95mm, Lead Span 2.4mm, IPC Medium Density)
footprint MF03A_L (SOT23, 3-Leads, Body 2.9x1.3mm, Pitch 0.95mm, Lead Span 2.4mm, IPC High Density)
footprint MF03A_M (SOT23, 3-Leads, Body 2.9x1.3mm, Pitch 0.95mm, Lead Span 2.4mm, IPC Low Density)
pins: 1 +V, 2 -V, 3 NC

## LM4051CIM3-1.2/NOPB
designator U?
Precision Micropower Shunt Voltage Reference, 3-pin SOT-23, Pb-Free; PartNumber: LM4051CIM3-1.2/NOPB; Manufacturer: National Semiconductor; PackageTopMarking: RHC*XTT; PowerWise: N; CompType: Voltage Reference IC; DatasheetVersion: Mar-2005; PackageVersion: revB, Mar-2003; PackageReference: MF03A; PackageDescription: Molded SOT-23, .115 x .051 x .037in Body, 3 Lead, .075 in Pitch; RoHS: Y; PinCount: 3; ComponentLink1Description: Manufacturer URL; ComponentLink1URL: http://www.national.com/; ComponentLink2Description: LM4051 Datasheet; ComponentLink2URL: http://www.national.com/ds/LM/LM4051.pdf; ComponentLink3Description: LM4051 Web Page; ComponentLink3URL: http://www.national.com/pf/LM/LM4051.html; ComponentLink4Description: MF03A Package Page; ComponentLink4URL: http://www.national.com/packaging/folders/mf03a.html
footprint MF03A_N (SOT23, 3-Leads, Body 2.9x1.3mm, Pitch 0.95mm, Lead Span 2.4mm, IPC Medium Density)
footprint MF03A_L (SOT23, 3-Leads, Body 2.9x1.3mm, Pitch 0.95mm, Lead Span 2.4mm, IPC High Density)
footprint MF03A_M (SOT23, 3-Leads, Body 2.9x1.3mm, Pitch 0.95mm, Lead Span 2.4mm, IPC Low Density)
pins: 1 +V, 2 -V, 3 NC

## LM4051CIM3-ADJ
designator U?
Precision Micropower Shunt Voltage Reference, 3-pin SOT-23; PartNumber: LM4051CIM3-ADJ; Manufacturer: National Semiconductor; PackageTopMarking: RIC*XTT; PowerWise: N; CompType: Voltage Reference IC; DatasheetVersion: Mar-2005; PackageVersion: revB, Mar-2003; PackageReference: MF03A; PackageDescription: Molded SOT-23, .115 x .051 x .037in Body, 3 Lead, .075 in Pitch; RoHS: N; PinCount: 3; ComponentLink1Description: Manufacturer URL; ComponentLink1URL: http://www.national.com/; ComponentLink2Description: LM4051 Datasheet; ComponentLink2URL: http://www.national.com/ds/LM/LM4051.pdf; ComponentLink3Description: LM4051 Web Page; ComponentLink3URL: http://www.national.com/pf/LM/LM4051.html; ComponentLink4Description: MF03A Package Page; ComponentLink4URL: http://www.national.com/packaging/folders/mf03a.html
footprint MF03A_N (SOT23, 3-Leads, Body 2.9x1.3mm, Pitch 0.95mm, Lead Span 2.4mm, IPC Medium Density)
footprint MF03A_L (SOT23, 3-Leads, Body 2.9x1.3mm, Pitch 0.95mm, Lead Span 2.4mm, IPC High Density)
footprint MF03A_M (SOT23, 3-Leads, Body 2.9x1.3mm, Pitch 0.95mm, Lead Span 2.4mm, IPC Low Density)
pins: 1 FB (in), 2 +V, 3 -V

## LM4051CIM3-ADJ/NOPB
designator U?
Precision Micropower Shunt Voltage Reference, 3-pin SOT-23, Pb-Free; PartNumber: LM4051CIM3-ADJ/NOPB; Manufacturer: National Semiconductor; PackageTopMarking: RIC*XTT; PowerWise: N; CompType: Voltage Reference IC; DatasheetVersion: Mar-2005; PackageVersion: revB, Mar-2003; PackageReference: MF03A; PackageDescription: Molded SOT-23, .115 x .051 x .037in Body, 3 Lead, .075 in Pitch; RoHS: Y; PinCount: 3; ComponentLink1Description: Manufacturer URL; ComponentLink1URL: http://www.national.com/; ComponentLink2Description: LM4051 Datasheet; ComponentLink2URL: http://www.national.com/ds/LM/LM4051.pdf; ComponentLink3Description: LM4051 Web Page; ComponentLink3URL: http://www.national.com/pf/LM/LM4051.html; ComponentLink4Description: MF03A Package Page; ComponentLink4URL: http://www.national.com/packaging/folders/mf03a.html
footprint MF03A_N (SOT23, 3-Leads, Body 2.9x1.3mm, Pitch 0.95mm, Lead Span 2.4mm, IPC Medium Density)
footprint MF03A_L (SOT23, 3-Leads, Body 2.9x1.3mm, Pitch 0.95mm, Lead Span 2.4mm, IPC High Density)
footprint MF03A_M (SOT23, 3-Leads, Body 2.9x1.3mm, Pitch 0.95mm, Lead Span 2.4mm, IPC Low Density)
pins: 1 FB (in), 2 +V, 3 -V

## LM4051CIM3X-1.2
designator U?
Precision Micropower Shunt Voltage Reference, 3-pin SOT-23; PartNumber: LM4051CIM3X-1.2; Manufacturer: National Semiconductor; PackageTopMarking: RHC*XTT; PowerWise: N; CompType: Voltage Reference IC; DatasheetVersion: Mar-2005; PackageVersion: revB, Mar-2003; PackageReference: MF03A; PackageDescription: Molded SOT-23, .115 x .051 x .037in Body, 3 Lead, .075 in Pitch; RoHS: N; PinCount: 3; ComponentLink1Description: Manufacturer URL; ComponentLink1URL: http://www.national.com/; ComponentLink2Description: LM4051 Datasheet; ComponentLink2URL: http://www.national.com/ds/LM/LM4051.pdf; ComponentLink3Description: LM4051 Web Page; ComponentLink3URL: http://www.national.com/pf/LM/LM4051.html; ComponentLink4Description: MF03A Package Page; ComponentLink4URL: http://www.national.com/packaging/folders/mf03a.html
footprint MF03A_N (SOT23, 3-Leads, Body 2.9x1.3mm, Pitch 0.95mm, Lead Span 2.4mm, IPC Medium Density)
footprint MF03A_L (SOT23, 3-Leads, Body 2.9x1.3mm, Pitch 0.95mm, Lead Span 2.4mm, IPC High Density)
footprint MF03A_M (SOT23, 3-Leads, Body 2.9x1.3mm, Pitch 0.95mm, Lead Span 2.4mm, IPC Low Density)
pins: 1 +V, 2 -V, 3 NC

## LM4051CIM3X-ADJ
designator U?
Precision Micropower Shunt Voltage Reference, 3-pin SOT-23; PartNumber: LM4051CIM3X-ADJ; Manufacturer: National Semiconductor; PackageTopMarking: RIC*XTT; PowerWise: N; CompType: Voltage Reference IC; DatasheetVersion: Mar-2005; PackageVersion: revB, Mar-2003; PackageReference: MF03A; PackageDescription: Molded SOT-23, .115 x .051 x .037in Body, 3 Lead, .075 in Pitch; RoHS: N; PinCount: 3; ComponentLink1Description: Manufacturer URL; ComponentLink1URL: http://www.national.com/; ComponentLink2Description: LM4051 Datasheet; ComponentLink2URL: http://www.national.com/ds/LM/LM4051.pdf; ComponentLink3Description: LM4051 Web Page; ComponentLink3URL: http://www.national.com/pf/LM/LM4051.html; ComponentLink4Description: MF03A Package Page; ComponentLink4URL: http://www.national.com/packaging/folders/mf03a.html
footprint MF03A_N (SOT23, 3-Leads, Body 2.9x1.3mm, Pitch 0.95mm, Lead Span 2.4mm, IPC Medium Density)
footprint MF03A_L (SOT23, 3-Leads, Body 2.9x1.3mm, Pitch 0.95mm, Lead Span 2.4mm, IPC High Density)
footprint MF03A_M (SOT23, 3-Leads, Body 2.9x1.3mm, Pitch 0.95mm, Lead Span 2.4mm, IPC Low Density)
pins: 1 FB (in), 2 +V, 3 -V

## LM4120AIM5-1.8
designator U?
Precision Micropower Low Dropout Voltage Reference, 5-pin SOT-23; PartNumber: LM4120AIM5-1.8; Manufacturer: National Semiconductor; PackageTopMarking: R21A*XTT; PowerWise: Y; CompType: Voltage Reference IC; DatasheetVersion: Mar-2005; PackageVersion: revD, Aug-2008; PackageReference: MF05A; PackageDescription: Molded SOT-23, .115 x .063 x .040 in Body, 5 Lead, .0375 in Pitch; RoHS: N; PinCount: 5; ComponentLink1Description: Manufacturer URL; ComponentLink1URL: http://www.national.com/; ComponentLink2Description: LM4120 Datasheet; ComponentLink2URL: http://www.national.com/ds/LM/LM4120.pdf; ComponentLink3Description: LM4120 Web Page; ComponentLink3URL: http://www.national.com/pf/LM/LM4120.html; ComponentLink4Description: MF05A Package Page; ComponentLink4URL: http://www.national.com/packaging/folders/mf05a.html
footprint MF05A_N (SOT23, 5-Leads, Body 2.9x1.6mm, Pitch 0.95mm, Lead Span 2.8mm, IPC Medium Density)
footprint MF05A_L (SOT23, 5-Leads, Body 2.9x1.6mm, Pitch 0.95mm, Lead Span 2.8mm, IPC High Density)
footprint MF05A_M (SOT23, 5-Leads, Body 2.9x1.6mm, Pitch 0.95mm, Lead Span 2.8mm, IPC Low Density)
pins: 1 REF, 2 GND (power), 3 EN (in), 4 IN (power), 5 OUT (power)

## LM4120AIM5-1.8/NOPB
designator U?
Precision Micropower Low Dropout Voltage Reference, 5-pin SOT-23, Pb-Free; PartNumber: LM4120AIM5-1.8/NOPB; Manufacturer: National Semiconductor; PackageTopMarking: R21A*XTT; PowerWise: Y; CompType: Voltage Reference IC; DatasheetVersion: Mar-2005; PackageVersion: revD, Aug-2008; PackageReference: MF05A; PackageDescription: Molded SOT-23, .115 x .063 x .040 in Body, 5 Lead, .0375 in Pitch; RoHS: Y; PinCount: 5; ComponentLink1Description: Manufacturer URL; ComponentLink1URL: http://www.national.com/; ComponentLink2Description: LM4120 Datasheet; ComponentLink2URL: http://www.national.com/ds/LM/LM4120.pdf; ComponentLink3Description: LM4120 Web Page; ComponentLink3URL: http://www.national.com/pf/LM/LM4120.html; ComponentLink4Description: MF05A Package Page; ComponentLink4URL: http://www.national.com/packaging/folders/mf05a.html
footprint MF05A_N (SOT23, 5-Leads, Body 2.9x1.6mm, Pitch 0.95mm, Lead Span 2.8mm, IPC Medium Density)
footprint MF05A_L (SOT23, 5-Leads, Body 2.9x1.6mm, Pitch 0.95mm, Lead Span 2.8mm, IPC High Density)
footprint MF05A_M (SOT23, 5-Leads, Body 2.9x1.6mm, Pitch 0.95mm, Lead Span 2.8mm, IPC Low Density)
pins: 1 REF, 2 GND (power), 3 EN (in), 4 IN (power), 5 OUT (power)

## LM4120AIM5-2.0
designator U?
Precision Micropower Low Dropout Voltage Reference, 5-pin SOT-23; PartNumber: LM4120AIM5-2.0; Manufacturer: National Semiconductor; PackageTopMarking: R14A*XTT; PowerWise: Y; CompType: Voltage Reference IC; DatasheetVersion: Mar-2005; PackageVersion: revD, Aug-2008; PackageReference: MF05A; PackageDescription: Molded SOT-23, .115 x .063 x .040 in Body, 5 Lead, .0375 in Pitch; RoHS: N; PinCount: 5; ComponentLink1Description: Manufacturer URL; ComponentLink1URL: http://www.national.com/; ComponentLink2Description: LM4120 Datasheet; ComponentLink2URL: http://www.national.com/ds/LM/LM4120.pdf; ComponentLink3Description: LM4120 Web Page; ComponentLink3URL: http://www.national.com/pf/LM/LM4120.html; ComponentLink4Description: MF05A Package Page; ComponentLink4URL: http://www.national.com/packaging/folders/mf05a.html
footprint MF05A_N (SOT23, 5-Leads, Body 2.9x1.6mm, Pitch 0.95mm, Lead Span 2.8mm, IPC Medium Density)
footprint MF05A_L (SOT23, 5-Leads, Body 2.9x1.6mm, Pitch 0.95mm, Lead Span 2.8mm, IPC High Density)
footprint MF05A_M (SOT23, 5-Leads, Body 2.9x1.6mm, Pitch 0.95mm, Lead Span 2.8mm, IPC Low Density)
pins: 1 REF, 2 GND (power), 3 EN (in), 4 IN (power), 5 OUT (power)

## LM4120AIM5-2.0/NOPB
designator U?
Precision Micropower Low Dropout Voltage Reference, 5-pin SOT-23, Pb-Free; PartNumber: LM4120AIM5-2.0/NOPB; Manufacturer: National Semiconductor; PackageTopMarking: R14A*XTT; PowerWise: Y; CompType: Voltage Reference IC; DatasheetVersion: Mar-2005; PackageVersion: revD, Aug-2008; PackageReference: MF05A; PackageDescription: Molded SOT-23, .115 x .063 x .040 in Body, 5 Lead, .0375 in Pitch; RoHS: Y; PinCount: 5; ComponentLink1Description: Manufacturer URL; ComponentLink1URL: http://www.national.com/; ComponentLink2Description: LM4120 Datasheet; ComponentLink2URL: http://www.national.com/ds/LM/LM4120.pdf; ComponentLink3Description: LM4120 Web Page; ComponentLink3URL: http://www.national.com/pf/LM/LM4120.html; ComponentLink4Description: MF05A Package Page; ComponentLink4URL: http://www.national.com/packaging/folders/mf05a.html
footprint MF05A_N (SOT23, 5-Leads, Body 2.9x1.6mm, Pitch 0.95mm, Lead Span 2.8mm, IPC Medium Density)
footprint MF05A_L (SOT23, 5-Leads, Body 2.9x1.6mm, Pitch 0.95mm, Lead Span 2.8mm, IPC High Density)
footprint MF05A_M (SOT23, 5-Leads, Body 2.9x1.6mm, Pitch 0.95mm, Lead Span 2.8mm, IPC Low Density)
pins: 1 REF, 2 GND (power), 3 EN (in), 4 IN (power), 5 OUT (power)

## LM4120AIM5-2.5
designator U?
Precision Micropower Low Dropout Voltage Reference, 5-pin SOT-23; PartNumber: LM4120AIM5-2.5; Manufacturer: National Semiconductor; PackageTopMarking: R08A*XTT; PowerWise: Y; CompType: Voltage Reference IC; DatasheetVersion: Mar-2005; PackageVersion: revD, Aug-2008; PackageReference: MF05A; PackageDescription: Molded SOT-23, .115 x .063 x .040 in Body, 5 Lead, .0375 in Pitch; RoHS: N; PinCount: 5; ComponentLink1Description: Manufacturer URL; ComponentLink1URL: http://www.national.com/; ComponentLink2Description: LM4120 Datasheet; ComponentLink2URL: http://www.national.com/ds/LM/LM4120.pdf; ComponentLink3Description: LM4120 Web Page; ComponentLink3URL: http://www.national.com/pf/LM/LM4120.html; ComponentLink4Description: MF05A Package Page; ComponentLink4URL: http://www.national.com/packaging/folders/mf05a.html
footprint MF05A_N (SOT23, 5-Leads, Body 2.9x1.6mm, Pitch 0.95mm, Lead Span 2.8mm, IPC Medium Density)
footprint MF05A_L (SOT23, 5-Leads, Body 2.9x1.6mm, Pitch 0.95mm, Lead Span 2.8mm, IPC High Density)
footprint MF05A_M (SOT23, 5-Leads, Body 2.9x1.6mm, Pitch 0.95mm, Lead Span 2.8mm, IPC Low Density)
pins: 1 REF, 2 GND (power), 3 EN (in), 4 IN (power), 5 OUT (power)

## LM4120AIM5-2.5/NOPB
designator U?
Precision Micropower Low Dropout Voltage Reference, 5-pin SOT-23, Pb-Free; PartNumber: LM4120AIM5-2.5/NOPB; Manufacturer: National Semiconductor; PackageTopMarking: R08A*XTT; PowerWise: Y; CompType: Voltage Reference IC; DatasheetVersion: Mar-2005; PackageVersion: revD, Aug-2008; PackageReference: MF05A; PackageDescription: Molded SOT-23, .115 x .063 x .040 in Body, 5 Lead, .0375 in Pitch; RoHS: Y; PinCount: 5; ComponentLink1Description: Manufacturer URL; ComponentLink1URL: http://www.national.com/; ComponentLink2Description: LM4120 Datasheet; ComponentLink2URL: http://www.national.com/ds/LM/LM4120.pdf; ComponentLink3Description: LM4120 Web Page; ComponentLink3URL: http://www.national.com/pf/LM/LM4120.html; ComponentLink4Description: MF05A Package Page; ComponentLink4URL: http://www.national.com/packaging/folders/mf05a.html
footprint MF05A_N (SOT23, 5-Leads, Body 2.9x1.6mm, Pitch 0.95mm, Lead Span 2.8mm, IPC Medium Density)
footprint MF05A_L (SOT23, 5-Leads, Body 2.9x1.6mm, Pitch 0.95mm, Lead Span 2.8mm, IPC High Density)
footprint MF05A_M (SOT23, 5-Leads, Body 2.9x1.6mm, Pitch 0.95mm, Lead Span 2.8mm, IPC Low Density)
pins: 1 REF, 2 GND (power), 3 EN (in), 4 IN (power), 5 OUT (power)

## LM4120AIM5-3.0
designator U?
Precision Micropower Low Dropout Voltage Reference, 5-pin SOT-23; PartNumber: LM4120AIM5-3.0; Manufacturer: National Semiconductor; PackageTopMarking: R15A*XTT; PowerWise: Y; CompType: Voltage Reference IC; DatasheetVersion: Mar-2005; PackageVersion: revD, Aug-2008; PackageReference: MF05A; PackageDescription: Molded SOT-23, .115 x .063 x .040 in Body, 5 Lead, .0375 in Pitch; RoHS: N; PinCount: 5; ComponentLink1Description: Manufacturer URL; ComponentLink1URL: http://www.national.com/; ComponentLink2Description: LM4120 Datasheet; ComponentLink2URL: http://www.national.com/ds/LM/LM4120.pdf; ComponentLink3Description: LM4120 Web Page; ComponentLink3URL: http://www.national.com/pf/LM/LM4120.html; ComponentLink4Description: MF05A Package Page; ComponentLink4URL: http://www.national.com/packaging/folders/mf05a.html
footprint MF05A_N (SOT23, 5-Leads, Body 2.9x1.6mm, Pitch 0.95mm, Lead Span 2.8mm, IPC Medium Density)
footprint MF05A_L (SOT23, 5-Leads, Body 2.9x1.6mm, Pitch 0.95mm, Lead Span 2.8mm, IPC High Density)
footprint MF05A_M (SOT23, 5-Leads, Body 2.9x1.6mm, Pitch 0.95mm, Lead Span 2.8mm, IPC Low Density)
pins: 1 REF, 2 GND (power), 3 EN (in), 4 IN (power), 5 OUT (power)